# Altium footprint library CAPS.PcbLib: 30 footprints (part 2 of 2)
Each footprint in its own frame and in the unit in brackets; x right, y up, seen from the top. Pads: shape width x height; smd on the part's side, far side on the other; paste and mask are expansions set on the pad; w line width, h text height; cw(c..) or ccw(c..) is an arc to the next point about the centre after c.
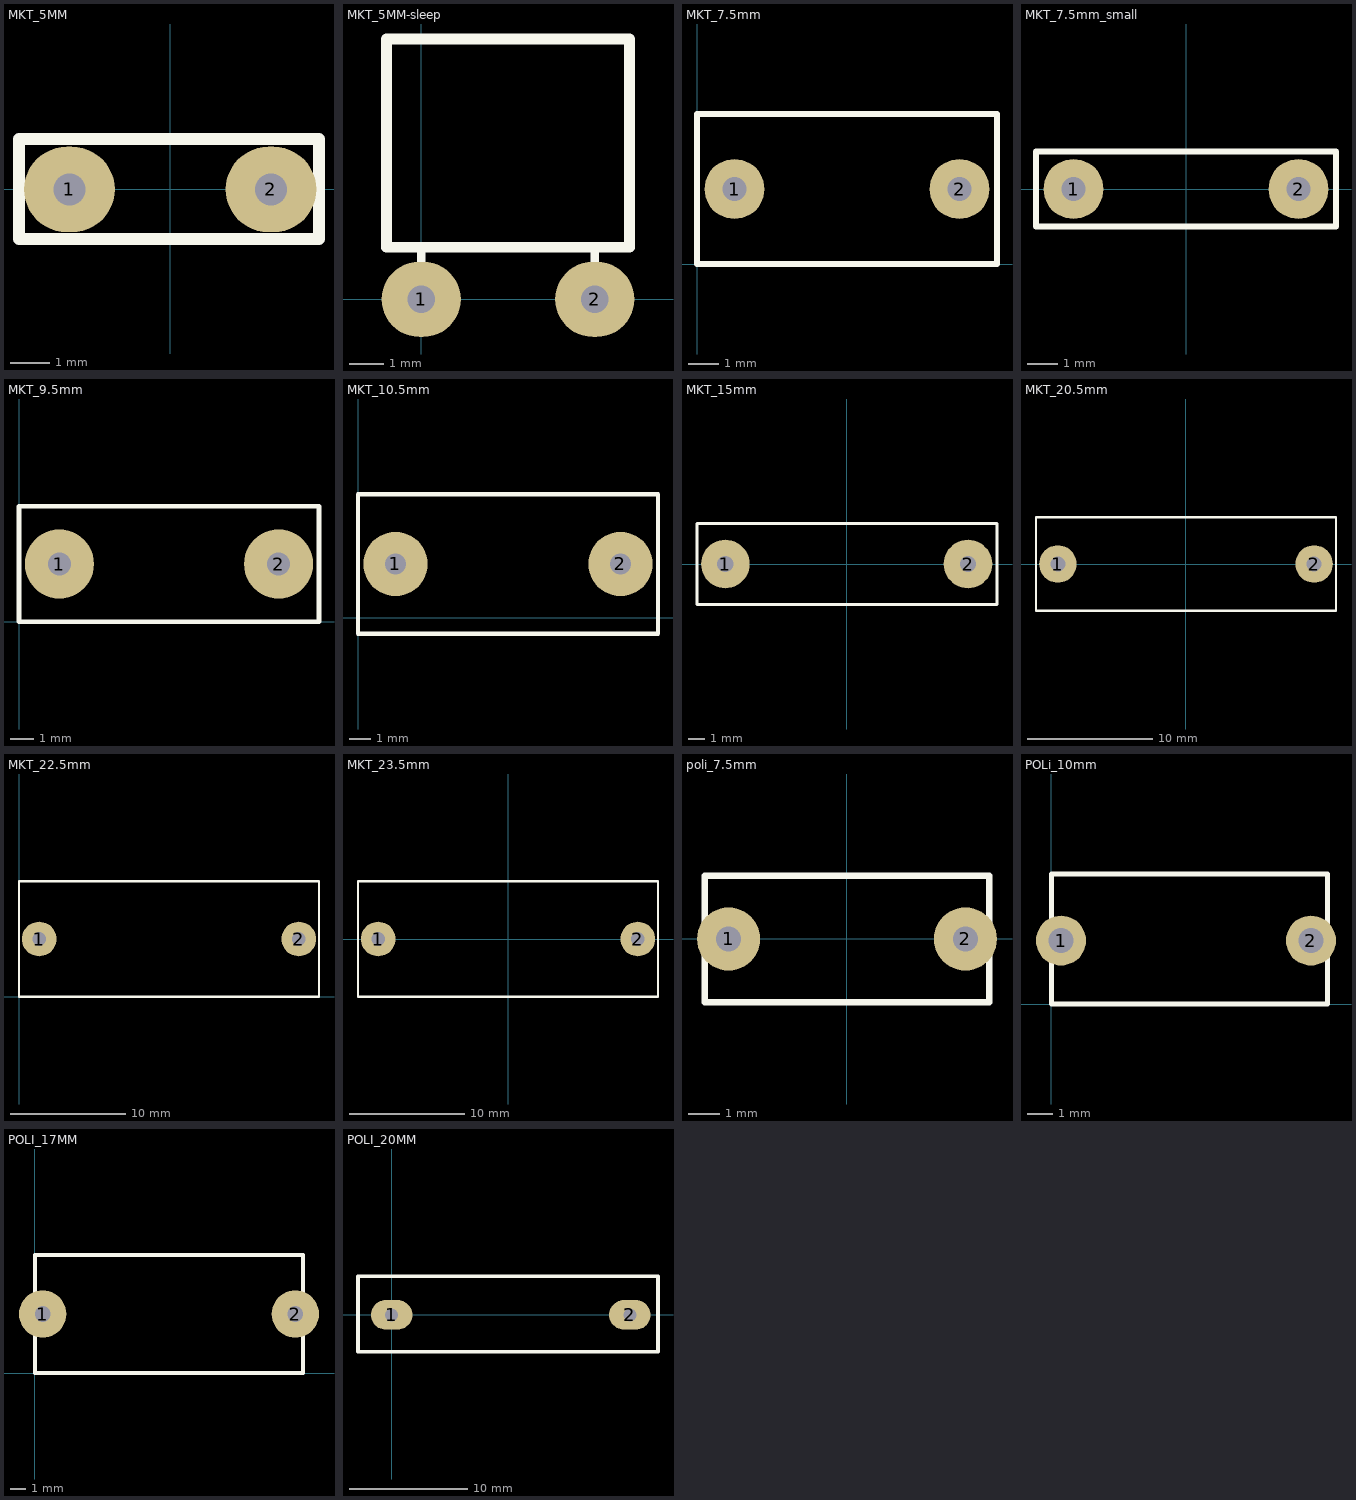
[diagram p1: the footprints below, top view; thin cyan lines are the x and y axes]

## MKT_5MM [mil]
pads (2):
  oval 90x85 hole 31.5: 1(-100,0) 2(100,0)
Top Overlay:
  lines w12: -150,-49.21 -150,50 147.64,50 147.64,-49.21 -150,-49.21

## MKT_5MM-sleep [mil]
pads (2):
  oval 90x85 hole 31.5: 1(0,0) 2(196.85,0)
Top Overlay:
  lines w10: 0,0 0,59.06 ; 196.85,0 196.85,57.2
  lines w12: -39.37,59.06 236.22,59.06 236.22,295.28 -39.37,295.28 -39.37,59.06

## MKT_7.5mm [mm]
pads (2):
  round 2 hole 0.8: 1(1.25,2.5) 2(8.75,2.5)
Top Overlay:
  lines w0.2: 0,0 0,5 10,5 10,0 0,0

## MKT_7.5mm_small [mm]
pads (2):
  round 2 hole 0.8: 1(-3.75,0) 2(3.75,0)
Top Overlay:
  lines w0.2: -5,-1.25 -5,1.25 5,1.25 5,-1.25 -5,-1.25

## MKT_9.5mm [mm]
pads (2):
  round 3 hole 1: 1(1.75,2.5) 2(11.25,2.5)
Top Overlay:
  lines w0.2: 0,0 0,5 13,5 13,0 0,0

## MKT_10.5mm [mm]
pads (2):
  round 3 hole 1: 1(1.75,2.5) 2(12.25,2.5)
Top Overlay:
  lines w0.2: 0,-0.75 0,5.75 14,5.75 14,-0.75 0,-0.75

## MKT_15mm [mm]
pads (2):
  round 3 hole 1: 1(-7.5,0) 2(7.5,0)
Top Overlay:
  lines w0.2: -9.25,-2.5 9.292,-2.5 9.292,2.5 -9.25,2.5 -9.25,-2.5

## MKT_20.5mm [mm]
pads (2):
  round 3 hole 1.2: 1(-10.25,0) 2(10.25,0)
Top Overlay:
  lines w0.2: -12,-3.75 12,-3.75 12,3.75 -12,3.75 -12,-3.75

## MKT_22.5mm [mm]
pads (2):
  round 3 hole 1.2: 1(1.75,5) 2(24.25,5)
Top Overlay:
  lines w0.2: 0,0 0,10 26,10 26,0 0,0

## MKT_23.5mm [mm]
pads (2):
  round 3 hole 1.2: 1(-11.25,0) 2(11.25,0)
Top Overlay:
  lines w0.2: -13,-5 13,-5 13,5 -13,5 -13,-5

## poli_7.5mm [mm]
pads (2):
  round 2 hole 0.8: 1(-3.75,0) 2(3.75,0)
Top Overlay:
  lines w0.2: -4.5,-2 4.5,-2 4.5,2 -4.5,2 -4.5,-2

## POLi_10mm [mm]
pads (2):
  round 2 hole 1: 1(0.381,2.54) 2(10.381,2.54)
Top Overlay:
  lines w0.2: 0,0 0,5.207 11.049,5.207 11.049,0 0,0

## POLI_17MM [mm]
pads (2):
  round 3 hole 1: 1(0.5,3.75) 2(16.5,3.75)
Top Overlay:
  lines w0.254: 0,0 17,0 17,7.5 0,7.5 0,0

## POLI_20MM [mm]
pads (2):
  oval 3.5x2.5 hole 1.1: 1(0,0) 2(20.1,0)
Top Overlay:
  lines w0.3: -2.845,-3.099 -2.845,3.251 22.479,3.251 22.479,-3.099 -2.845,-3.099